# Altium footprint library QFPxx.PcbLib: 5 footprints (part 2 of 3)
Each footprint in its own frame and in the unit in brackets; x right, y up, seen from the top. Pads: shape width x height; smd on the part's side, far side on the other; paste and mask are expansions set on the pad; w line width, h text height; cw(c..) or ccw(c..) is an arc to the next point about the centre after c.
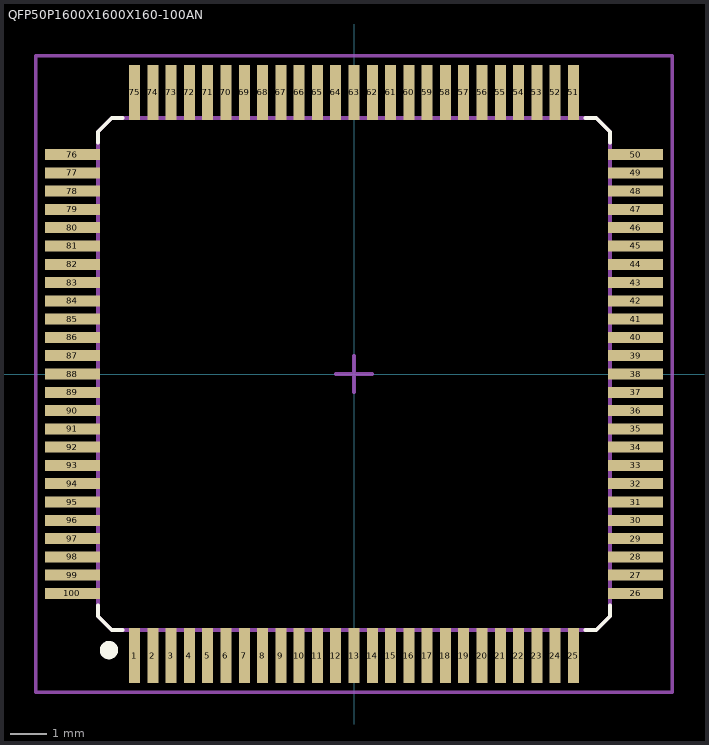
[diagram p1: the footprint, top view; thin cyan lines are the x and y axes]

## QFP50P1600X1600X160-100AN [mm] "Thin QFP, 100-Leads, Body 14x14mm, Pitch 0.5mm"
height 1.6
pads (100):
  rect 0.3x1.5 smd: 1(-6,-7.7) 2(-5.5,-7.7) 3(-5,-7.7) 4(-4.5,-7.7) 5(-4,-7.7) 6(-3.5,-7.7) 7(-3,-7.7) 8(-2.5,-7.7) 9(-2,-7.7) 10(-1.5,-7.7) 11(-1,-7.7) 12(-0.5,-7.7) 13(0,-7.7) 14(0.5,-7.7) 15(1,-7.7) 16(1.5,-7.7) 17(2,-7.7) 18(2.5,-7.7) 19(3,-7.7) 20(3.5,-7.7) 21(4,-7.7) 22(4.5,-7.7) 23(5,-7.7) 24(5.5,-7.7) 25(6,-7.7) 51(6,7.7) 52(5.5,7.7) 53(5,7.7) 54(4.5,7.7) 55(4,7.7) 56(3.5,7.7) 57(3,7.7) 58(2.5,7.7) 59(2,7.7) 60(1.5,7.7) 61(1,7.7) 62(0.5,7.7) 63(0,7.7) 64(-0.5,7.7) 65(-1,7.7) 66(-1.5,7.7) 67(-2,7.7) 68(-2.5,7.7) 69(-3,7.7) 70(-3.5,7.7) 71(-4,7.7) 72(-4.5,7.7) 73(-5,7.7) 74(-5.5,7.7) 75(-6,7.7)
  rect 1.5x0.3 smd: 26(7.7,-6) 27(7.7,-5.5) 28(7.7,-5) 29(7.7,-4.5) 30(7.7,-4) 31(7.7,-3.5) 32(7.7,-3) 33(7.7,-2.5) 34(7.7,-2) 35(7.7,-1.5) 36(7.7,-1) 37(7.7,-0.5) 38(7.7,0) 39(7.7,0.5) 40(7.7,1) 41(7.7,1.5) 42(7.7,2) 43(7.7,2.5) 44(7.7,3) 45(7.7,3.5) 46(7.7,4) 47(7.7,4.5) 48(7.7,5) 49(7.7,5.5) 50(7.7,6) 76(-7.7,6) 77(-7.7,5.5) 78(-7.7,5) 79(-7.7,4.5) 80(-7.7,4) 81(-7.7,3.5) 82(-7.7,3) 83(-7.7,2.5) 84(-7.7,2) 85(-7.7,1.5) 86(-7.7,1) 87(-7.7,0.5) 88(-7.7,0) 89(-7.7,-0.5) 90(-7.7,-1) 91(-7.7,-1.5) 92(-7.7,-2) 93(-7.7,-2.5) 94(-7.7,-3) 95(-7.7,-3.5) 96(-7.7,-4) 97(-7.7,-4.5) 98(-7.7,-5) 99(-7.7,-5.5) 100(-7.7,-6)
Top Overlay:
  circle w0.25: c-6.7,-7.55 r0.125
  lines w0.1: -7,-6.325 -7,-6.625 -6.625,-7 -6.325,-7 ; -7,6.325 -7,6.625 -6.625,7 -6.325,7 ; 6.325,-7 6.625,-7 7,-6.625 7,-6.325 ; 6.325,7 6.625,7 7,6.625 7,6.325
Mechanical 13:
  lines w0.1: -7,-6.625 -7,6.625 -6.625,7 6.625,7 7,6.625 7,-6.625 6.625,-7 -6.625,-7 -7,-6.625
Mechanical 15:
  lines w0.1: -0.5,0 0.5,0 ; 0,-0.5 0,0.5 ; -8.7,-8.7 8.7,-8.7 8.7,8.7 -8.7,8.7 -8.7,-8.7
3D body: height 1.61, standoff 1.6, extent -6.55,-6.547 -5.951,-5.95
3D body: height 1.6, standoff 0, extent -7,-7 7,7
3D body: height 0.2, standoff 0, extent -6.125,-8 -5.875,-7.3
3D body: height 0.9, standoff 0.7, extent -6.125,-7.3 -5.875,-7
3D body: height 0.9, standoff 0, extent -6.125,-7.3 -5.875,-7.2
3D body: height 0.2, standoff 0, extent -5.625,-8 -5.375,-7.3
3D body: height 0.9, standoff 0.7, extent -5.625,-7.3 -5.375,-7
3D body: height 0.9, standoff 0, extent -5.625,-7.3 -5.375,-7.2
3D body: height 0.2, standoff 0, extent -5.125,-8 -4.875,-7.3
3D body: height 0.9, standoff 0.7, extent -5.125,-7.3 -4.875,-7
3D body: height 0.9, standoff 0, extent -5.125,-7.3 -4.875,-7.2
3D body: height 0.2, standoff 0, extent -4.625,-8 -4.375,-7.3
3D body: height 0.9, standoff 0.7, extent -4.625,-7.3 -4.375,-7
3D body: height 0.9, standoff 0, extent -4.625,-7.3 -4.375,-7.2
3D body: height 0.2, standoff 0, extent -4.125,-8 -3.875,-7.3
3D body: height 0.9, standoff 0.7, extent -4.125,-7.3 -3.875,-7
3D body: height 0.9, standoff 0, extent -4.125,-7.3 -3.875,-7.2
3D body: height 0.2, standoff 0, extent -6.125,-8 -5.875,-7.3
3D body: height 0.9, standoff 0.7, extent -6.125,-7.3 -5.875,-7
3D body: height 0.9, standoff 0, extent -6.125,-7.3 -5.875,-7.2
3D body: height 0.9, standoff 0, extent -1.625,-7.3 -1.375,-7.2
3D body: height 0.9, standoff 0.7, extent -1.625,-7.3 -1.375,-7
3D body: height 0.2, standoff 0, extent -1.625,-8 -1.375,-7.3
3D body: height 0.9, standoff 0, extent -2.125,-7.3 -1.875,-7.2
3D body: height 0.9, standoff 0.7, extent -2.125,-7.3 -1.875,-7
3D body: height 0.2, standoff 0, extent -2.125,-8 -1.875,-7.3
3D body: height 0.9, standoff 0, extent -2.625,-7.3 -2.375,-7.2
3D body: height 0.9, standoff 0.7, extent -2.625,-7.3 -2.375,-7
3D body: height 0.2, standoff 0, extent -2.625,-8 -2.375,-7.3
3D body: height 0.9, standoff 0, extent -3.125,-7.3 -2.875,-7.2
3D body: height 0.9, standoff 0.7, extent -3.125,-7.3 -2.875,-7
3D body: height 0.2, standoff 0, extent -3.125,-8 -2.875,-7.3
3D body: height 0.9, standoff 0, extent -3.625,-7.3 -3.375,-7.2
3D body: height 0.9, standoff 0.7, extent -3.625,-7.3 -3.375,-7
3D body: height 0.2, standoff 0, extent -3.625,-8 -3.375,-7.3
3D body: height 0.9, standoff 0, extent 0.875,-7.3 1.125,-7.2
3D body: height 0.9, standoff 0.7, extent 0.875,-7.3 1.125,-7
3D body: height 0.2, standoff 0, extent 0.875,-8 1.125,-7.3
3D body: height 0.9, standoff 0, extent 0.375,-7.3 0.625,-7.2
3D body: height 0.9, standoff 0.7, extent 0.375,-7.3 0.625,-7
3D body: height 0.2, standoff 0, extent 0.375,-8 0.625,-7.3
3D body: height 0.9, standoff 0, extent -0.125,-7.3 0.125,-7.2
3D body: height 0.9, standoff 0.7, extent -0.125,-7.3 0.125,-7
3D body: height 0.2, standoff 0, extent -0.125,-8 0.125,-7.3
3D body: height 0.9, standoff 0, extent -0.625,-7.3 -0.375,-7.2
3D body: height 0.9, standoff 0.7, extent -0.625,-7.3 -0.375,-7
3D body: height 0.2, standoff 0, extent -0.625,-8 -0.375,-7.3
3D body: height 0.9, standoff 0, extent -1.125,-7.3 -0.875,-7.2
3D body: height 0.9, standoff 0.7, extent -1.125,-7.3 -0.875,-7
3D body: height 0.2, standoff 0, extent -1.125,-8 -0.875,-7.3
3D body: height 0.9, standoff 0, extent 3.375,-7.3 3.625,-7.2
3D body: height 0.9, standoff 0.7, extent 3.375,-7.3 3.625,-7
3D body: height 0.2, standoff 0, extent 3.375,-8 3.625,-7.3
3D body: height 0.9, standoff 0, extent 2.875,-7.3 3.125,-7.2
3D body: height 0.9, standoff 0.7, extent 2.875,-7.3 3.125,-7
3D body: height 0.2, standoff 0, extent 2.875,-8 3.125,-7.3
3D body: height 0.9, standoff 0, extent 2.375,-7.3 2.625,-7.2
3D body: height 0.9, standoff 0.7, extent 2.375,-7.3 2.625,-7
3D body: height 0.2, standoff 0, extent 2.375,-8 2.625,-7.3
3D body: height 0.9, standoff 0, extent 1.875,-7.3 2.125,-7.2
3D body: height 0.9, standoff 0.7, extent 1.875,-7.3 2.125,-7
3D body: height 0.2, standoff 0, extent 1.875,-8 2.125,-7.3
3D body: height 0.9, standoff 0, extent 1.375,-7.3 1.625,-7.2
3D body: height 0.9, standoff 0.7, extent 1.375,-7.3 1.625,-7
3D body: height 0.2, standoff 0, extent 1.375,-8 1.625,-7.3
3D body: height 0.9, standoff 0, extent 5.875,-7.3 6.125,-7.2
3D body: height 0.9, standoff 0.7, extent 5.875,-7.3 6.125,-7
3D body: height 0.2, standoff 0, extent 5.875,-8 6.125,-7.3
3D body: height 0.9, standoff 0, extent 5.375,-7.3 5.625,-7.2
3D body: height 0.9, standoff 0.7, extent 5.375,-7.3 5.625,-7
3D body: height 0.2, standoff 0, extent 5.375,-8 5.625,-7.3
3D body: height 0.9, standoff 0, extent 4.875,-7.3 5.125,-7.2
3D body: height 0.9, standoff 0.7, extent 4.875,-7.3 5.125,-7
3D body: height 0.2, standoff 0, extent 4.875,-8 5.125,-7.3
3D body: height 0.9, standoff 0, extent 4.375,-7.3 4.625,-7.2
3D body: height 0.9, standoff 0.7, extent 4.375,-7.3 4.625,-7
3D body: height 0.2, standoff 0, extent 4.375,-8 4.625,-7.3
3D body: height 0.9, standoff 0, extent 3.875,-7.3 4.125,-7.2
3D body: height 0.9, standoff 0.7, extent 3.875,-7.3 4.125,-7
3D body: height 0.2, standoff 0, extent 3.875,-8 4.125,-7.3
3D body: height 0.2, standoff 0, extent -4.125,7.3 -3.875,8
3D body: height 0.9, standoff 0.7, extent -4.125,7 -3.875,7.3
3D body: height 0.9, standoff 0, extent -4.125,7.2 -3.875,7.3
3D body: height 0.2, standoff 0, extent -4.625,7.3 -4.375,8
3D body: height 0.9, standoff 0.7, extent -4.625,7 -4.375,7.3
3D body: height 0.9, standoff 0, extent -4.625,7.2 -4.375,7.3
3D body: height 0.2, standoff 0, extent -5.125,7.3 -4.875,8
3D body: height 0.9, standoff 0.7, extent -5.125,7 -4.875,7.3
3D body: height 0.9, standoff 0, extent -5.125,7.2 -4.875,7.3
3D body: height 0.2, standoff 0, extent -5.625,7.3 -5.375,8
3D body: height 0.9, standoff 0.7, extent -5.625,7 -5.375,7.3
3D body: height 0.9, standoff 0, extent -5.625,7.2 -5.375,7.3
3D body: height 0.2, standoff 0, extent -6.125,7.3 -5.875,8
3D body: height 0.9, standoff 0.7, extent -6.125,7 -5.875,7.3
3D body: height 0.9, standoff 0, extent -6.125,7.2 -5.875,7.3
3D body: height 0.2, standoff 0, extent -1.625,7.3 -1.375,8
3D body: height 0.9, standoff 0.7, extent -1.625,7 -1.375,7.3
3D body: height 0.9, standoff 0, extent -1.625,7.2 -1.375,7.3
3D body: height 0.2, standoff 0, extent -2.125,7.3 -1.875,8
3D body: height 0.9, standoff 0.7, extent -2.125,7 -1.875,7.3
3D body: height 0.9, standoff 0, extent -2.125,7.2 -1.875,7.3
3D body: height 0.2, standoff 0, extent -2.625,7.3 -2.375,8
3D body: height 0.9, standoff 0.7, extent -2.625,7 -2.375,7.3
3D body: height 0.9, standoff 0, extent -2.625,7.2 -2.375,7.3
3D body: height 0.2, standoff 0, extent -3.125,7.3 -2.875,8
3D body: height 0.9, standoff 0.7, extent -3.125,7 -2.875,7.3
3D body: height 0.9, standoff 0, extent -3.125,7.2 -2.875,7.3
3D body: height 0.2, standoff 0, extent -3.625,7.3 -3.375,8
3D body: height 0.9, standoff 0.7, extent -3.625,7 -3.375,7.3
3D body: height 0.9, standoff 0, extent -3.625,7.2 -3.375,7.3
3D body: height 0.2, standoff 0, extent 0.875,7.3 1.125,8
3D body: height 0.9, standoff 0.7, extent 0.875,7 1.125,7.3
3D body: height 0.9, standoff 0, extent 0.875,7.2 1.125,7.3
3D body: height 0.2, standoff 0, extent 0.375,7.3 0.625,8
3D body: height 0.9, standoff 0.7, extent 0.375,7 0.625,7.3
3D body: height 0.9, standoff 0, extent 0.375,7.2 0.625,7.3
3D body: height 0.2, standoff 0, extent -0.125,7.3 0.125,8
3D body: height 0.9, standoff 0.7, extent -0.125,7 0.125,7.3
3D body: height 0.9, standoff 0, extent -0.125,7.2 0.125,7.3
3D body: height 0.2, standoff 0, extent -0.625,7.3 -0.375,8
3D body: height 0.9, standoff 0.7, extent -0.625,7 -0.375,7.3
3D body: height 0.9, standoff 0, extent -0.625,7.2 -0.375,7.3
3D body: height 0.2, standoff 0, extent -1.125,7.3 -0.875,8
3D body: height 0.9, standoff 0.7, extent -1.125,7 -0.875,7.3
3D body: height 0.9, standoff 0, extent -1.125,7.2 -0.875,7.3
3D body: height 0.2, standoff 0, extent 3.375,7.3 3.625,8
3D body: height 0.9, standoff 0.7, extent 3.375,7 3.625,7.3
3D body: height 0.9, standoff 0, extent 3.375,7.2 3.625,7.3
3D body: height 0.2, standoff 0, extent 2.875,7.3 3.125,8
3D body: height 0.9, standoff 0.7, extent 2.875,7 3.125,7.3
3D body: height 0.9, standoff 0, extent 2.875,7.2 3.125,7.3
3D body: height 0.2, standoff 0, extent 2.375,7.3 2.625,8
3D body: height 0.9, standoff 0.7, extent 2.375,7 2.625,7.3
3D body: height 0.9, standoff 0, extent 2.375,7.2 2.625,7.3
3D body: height 0.2, standoff 0, extent 1.875,7.3 2.125,8
3D body: height 0.9, standoff 0.7, extent 1.875,7 2.125,7.3
3D body: height 0.9, standoff 0, extent 1.875,7.2 2.125,7.3
3D body: height 0.2, standoff 0, extent 1.375,7.3 1.625,8
3D body: height 0.9, standoff 0.7, extent 1.375,7 1.625,7.3
3D body: height 0.9, standoff 0, extent 1.375,7.2 1.625,7.3
3D body: height 0.9, standoff 0, extent 5.875,7.2 6.125,7.3
3D body: height 0.9, standoff 0.7, extent 5.875,7 6.125,7.3
3D body: height 0.2, standoff 0, extent 5.875,7.3 6.125,8
3D body: height 0.9, standoff 0, extent 3.875,7.2 4.125,7.3
3D body: height 0.9, standoff 0.7, extent 3.875,7 4.125,7.3
3D body: height 0.2, standoff 0, extent 3.875,7.3 4.125,8
3D body: height 0.9, standoff 0, extent 4.375,7.2 4.625,7.3
3D body: height 0.9, standoff 0.7, extent 4.375,7 4.625,7.3
3D body: height 0.2, standoff 0, extent 4.375,7.3 4.625,8
3D body: height 0.9, standoff 0, extent 4.875,7.2 5.125,7.3
3D body: height 0.9, standoff 0.7, extent 4.875,7 5.125,7.3
3D body: height 0.2, standoff 0, extent 4.875,7.3 5.125,8
3D body: height 0.9, standoff 0, extent 5.375,7.2 5.625,7.3
3D body: height 0.9, standoff 0.7, extent 5.375,7 5.625,7.3
3D body: height 0.2, standoff 0, extent 5.375,7.3 5.625,8
3D body: height 0.9, standoff 0, extent 5.875,7.2 6.125,7.3
3D body: height 0.9, standoff 0.7, extent 5.875,7 6.125,7.3
3D body: height 0.2, standoff 0, extent 5.875,7.3 6.125,8
3D body: height 0.2, standoff 0, extent -8,-4.125 -7.3,-3.875
3D body: height 0.9, standoff 0.7, extent -7.3,-4.125 -7,-3.875
3D body: height 0.9, standoff 0, extent -7.3,-4.125 -7.2,-3.875
3D body: height 0.2, standoff 0, extent -8,-4.625 -7.3,-4.375
3D body: height 0.9, standoff 0.7, extent -7.3,-4.625 -7,-4.375
3D body: height 0.9, standoff 0, extent -7.3,-4.625 -7.2,-4.375
3D body: height 0.2, standoff 0, extent -8,-5.125 -7.3,-4.875
3D body: height 0.9, standoff 0.7, extent -7.3,-5.125 -7,-4.875
3D body: height 0.9, standoff 0, extent -7.3,-5.125 -7.2,-4.875
3D body: height 0.2, standoff 0, extent -8,-5.625 -7.3,-5.375
3D body: height 0.9, standoff 0.7, extent -7.3,-5.625 -7,-5.375
3D body: height 0.9, standoff 0, extent -7.3,-5.625 -7.2,-5.375
3D body: height 0.2, standoff 0, extent -8,-6.125 -7.3,-5.875
3D body: height 0.9, standoff 0.7, extent -7.3,-6.125 -7,-5.875
3D body: height 0.9, standoff 0, extent -7.3,-6.125 -7.2,-5.875
3D body: height 0.2, standoff 0, extent -8,-1.625 -7.3,-1.375
3D body: height 0.9, standoff 0.7, extent -7.3,-1.625 -7,-1.375
3D body: height 0.9, standoff 0, extent -7.3,-1.625 -7.2,-1.375
3D body: height 0.2, standoff 0, extent -8,-2.125 -7.3,-1.875
3D body: height 0.9, standoff 0.7, extent -7.3,-2.125 -7,-1.875
3D body: height 0.9, standoff 0, extent -7.3,-2.125 -7.2,-1.875
3D body: height 0.2, standoff 0, extent -8,-2.625 -7.3,-2.375
3D body: height 0.9, standoff 0.7, extent -7.3,-2.625 -7,-2.375
3D body: height 0.9, standoff 0, extent -7.3,-2.625 -7.2,-2.375
3D body: height 0.2, standoff 0, extent -8,-3.125 -7.3,-2.875
3D body: height 0.9, standoff 0.7, extent -7.3,-3.125 -7,-2.875
3D body: height 0.9, standoff 0, extent -7.3,-3.125 -7.2,-2.875
3D body: height 0.2, standoff 0, extent -8,-3.625 -7.3,-3.375
3D body: height 0.9, standoff 0.7, extent -7.3,-3.625 -7,-3.375
3D body: height 0.9, standoff 0, extent -7.3,-3.625 -7.2,-3.375
3D body: height 0.2, standoff 0, extent -8,0.875 -7.3,1.125
3D body: height 0.9, standoff 0.7, extent -7.3,0.875 -7,1.125
3D body: height 0.9, standoff 0, extent -7.3,0.875 -7.2,1.125
3D body: height 0.2, standoff 0, extent -8,0.375 -7.3,0.625
3D body: height 0.9, standoff 0.7, extent -7.3,0.375 -7,0.625
3D body: height 0.9, standoff 0, extent -7.3,0.375 -7.2,0.625
3D body: height 0.2, standoff 0, extent -8,-0.125 -7.3,0.125
3D body: height 0.9, standoff 0.7, extent -7.3,-0.125 -7,0.125
3D body: height 0.9, standoff 0, extent -7.3,-0.125 -7.2,0.125
3D body: height 0.2, standoff 0, extent -8,-0.625 -7.3,-0.375
3D body: height 0.9, standoff 0.7, extent -7.3,-0.625 -7,-0.375
3D body: height 0.9, standoff 0, extent -7.3,-0.625 -7.2,-0.375
3D body: height 0.2, standoff 0, extent -8,-1.125 -7.3,-0.875
3D body: height 0.9, standoff 0.7, extent -7.3,-1.125 -7,-0.875
3D body: height 0.9, standoff 0, extent -7.3,-1.125 -7.2,-0.875
3D body: height 0.2, standoff 0, extent -8,3.375 -7.3,3.625
3D body: height 0.9, standoff 0.7, extent -7.3,3.375 -7,3.625
3D body: height 0.9, standoff 0, extent -7.3,3.375 -7.2,3.625
3D body: height 0.2, standoff 0, extent -8,2.875 -7.3,3.125
3D body: height 0.9, standoff 0.7, extent -7.3,2.875 -7,3.125
3D body: height 0.9, standoff 0, extent -7.3,2.875 -7.2,3.125
3D body: height 0.2, standoff 0, extent -8,2.375 -7.3,2.625
3D body: height 0.9, standoff 0.7, extent -7.3,2.375 -7,2.625
3D body: height 0.9, standoff 0, extent -7.3,2.375 -7.2,2.625
3D body: height 0.2, standoff 0, extent -8,1.875 -7.3,2.125
3D body: height 0.9, standoff 0.7, extent -7.3,1.875 -7,2.125
3D body: height 0.9, standoff 0, extent -7.3,1.875 -7.2,2.125
3D body: height 0.2, standoff 0, extent -8,1.375 -7.3,1.625
3D body: height 0.9, standoff 0.7, extent -7.3,1.375 -7,1.625
3D body: height 0.9, standoff 0, extent -7.3,1.375 -7.2,1.625
3D body: height 0.9, standoff 0, extent -7.3,5.875 -7.2,6.125
3D body: height 0.9, standoff 0.7, extent -7.3,5.875 -7,6.125
3D body: height 0.2, standoff 0, extent -8,5.875 -7.3,6.125
3D body: height 0.9, standoff 0, extent -7.3,3.875 -7.2,4.125
3D body: height 0.9, standoff 0.7, extent -7.3,3.875 -7,4.125
3D body: height 0.2, standoff 0, extent -8,3.875 -7.3,4.125
3D body: height 0.9, standoff 0, extent -7.3,4.375 -7.2,4.625
3D body: height 0.9, standoff 0.7, extent -7.3,4.375 -7,4.625
3D body: height 0.2, standoff 0, extent -8,4.375 -7.3,4.625
3D body: height 0.9, standoff 0, extent -7.3,4.875 -7.2,5.125
3D body: height 0.9, standoff 0.7, extent -7.3,4.875 -7,5.125
3D body: height 0.2, standoff 0, extent -8,4.875 -7.3,5.125
3D body: height 0.9, standoff 0, extent -7.3,5.375 -7.2,5.625
3D body: height 0.9, standoff 0.7, extent -7.3,5.375 -7,5.625
3D body: height 0.2, standoff 0, extent -8,5.375 -7.3,5.625
3D body: height 0.9, standoff 0, extent -7.3,5.875 -7.2,6.125
3D body: height 0.9, standoff 0.7, extent -7.3,5.875 -7,6.125
3D body: height 0.2, standoff 0, extent -8,5.875 -7.3,6.125
3D body: height 0.2, standoff 0, extent 7.3,3.875 8,4.125
3D body: height 0.9, standoff 0.7, extent 7,3.875 7.3,4.125
3D body: height 0.9, standoff 0, extent 7.2,3.875 7.3,4.125
3D body: height 0.2, standoff 0, extent 7.3,4.375 8,4.625
3D body: height 0.9, standoff 0.7, extent 7,4.375 7.3,4.625
3D body: height 0.9, standoff 0, extent 7.2,4.375 7.3,4.625
3D body: height 0.2, standoff 0, extent 7.3,4.875 8,5.125
3D body: height 0.9, standoff 0.7, extent 7,4.875 7.3,5.125
3D body: height 0.9, standoff 0, extent 7.2,4.875 7.3,5.125
3D body: height 0.2, standoff 0, extent 7.3,5.375 8,5.625
3D body: height 0.9, standoff 0.7, extent 7,5.375 7.3,5.625
3D body: height 0.9, standoff 0, extent 7.2,5.375 7.3,5.625
3D body: height 0.2, standoff 0, extent 7.3,5.875 8,6.125
3D body: height 0.9, standoff 0.7, extent 7,5.875 7.3,6.125
3D body: height 0.9, standoff 0, extent 7.2,5.875 7.3,6.125
3D body: height 0.2, standoff 0, extent 7.3,1.375 8,1.625
3D body: height 0.9, standoff 0.7, extent 7,1.375 7.3,1.625
3D body: height 0.9, standoff 0, extent 7.2,1.375 7.3,1.625
3D body: height 0.2, standoff 0, extent 7.3,1.875 8,2.125
3D body: height 0.9, standoff 0.7, extent 7,1.875 7.3,2.125
3D body: height 0.9, standoff 0, extent 7.2,1.875 7.3,2.125
3D body: height 0.2, standoff 0, extent 7.3,2.375 8,2.625
3D body: height 0.9, standoff 0.7, extent 7,2.375 7.3,2.625
3D body: height 0.9, standoff 0, extent 7.2,2.375 7.3,2.625
3D body: height 0.2, standoff 0, extent 7.3,2.875 8,3.125
3D body: height 0.9, standoff 0.7, extent 7,2.875 7.3,3.125
3D body: height 0.9, standoff 0, extent 7.2,2.875 7.3,3.125
3D body: height 0.2, standoff 0, extent 7.3,3.375 8,3.625
3D body: height 0.9, standoff 0.7, extent 7,3.375 7.3,3.625
3D body: height 0.9, standoff 0, extent 7.2,3.375 7.3,3.625
3D body: height 0.2, standoff 0, extent 7.3,-1.125 8,-0.875
3D body: height 0.9, standoff 0.7, extent 7,-1.125 7.3,-0.875
3D body: height 0.9, standoff 0, extent 7.2,-1.125 7.3,-0.875
3D body: height 0.2, standoff 0, extent 7.3,-0.625 8,-0.375
3D body: height 0.9, standoff 0.7, extent 7,-0.625 7.3,-0.375
3D body: height 0.9, standoff 0, extent 7.2,-0.625 7.3,-0.375
3D body: height 0.2, standoff 0, extent 7.3,-0.125 8,0.125
3D body: height 0.9, standoff 0.7, extent 7,-0.125 7.3,0.125
3D body: height 0.9, standoff 0, extent 7.2,-0.125 7.3,0.125
3D body: height 0.2, standoff 0, extent 7.3,0.375 8,0.625
3D body: height 0.9, standoff 0.7, extent 7,0.375 7.3,0.625
3D body: height 0.9, standoff 0, extent 7.2,0.375 7.3,0.625
3D body: height 0.2, standoff 0, extent 7.3,0.875 8,1.125
3D body: height 0.9, standoff 0.7, extent 7,0.875 7.3,1.125
3D body: height 0.9, standoff 0, extent 7.2,0.875 7.3,1.125
3D body: height 0.2, standoff 0, extent 7.3,-3.625 8,-3.375
3D body: height 0.9, standoff 0.7, extent 7,-3.625 7.3,-3.375
3D body: height 0.9, standoff 0, extent 7.2,-3.625 7.3,-3.375
3D body: height 0.2, standoff 0, extent 7.3,-3.125 8,-2.875
3D body: height 0.9, standoff 0.7, extent 7,-3.125 7.3,-2.875
3D body: height 0.9, standoff 0, extent 7.2,-3.125 7.3,-2.875
3D body: height 0.2, standoff 0, extent 7.3,-2.625 8,-2.375
3D body: height 0.9, standoff 0.7, extent 7,-2.625 7.3,-2.375
3D body: height 0.9, standoff 0, extent 7.2,-2.625 7.3,-2.375
3D body: height 0.2, standoff 0, extent 7.3,-2.125 8,-1.875
3D body: height 0.9, standoff 0.7, extent 7,-2.125 7.3,-1.875
3D body: height 0.9, standoff 0, extent 7.2,-2.125 7.3,-1.875
3D body: height 0.2, standoff 0, extent 7.3,-1.625 8,-1.375
3D body: height 0.9, standoff 0.7, extent 7,-1.625 7.3,-1.375
3D body: height 0.9, standoff 0, extent 7.2,-1.625 7.3,-1.375
3D body: height 0.9, standoff 0, extent 7.2,-6.125 7.3,-5.875
3D body: height 0.9, standoff 0.7, extent 7,-6.125 7.3,-5.875
3D body: height 0.2, standoff 0, extent 7.3,-6.125 8,-5.875
3D body: height 0.9, standoff 0, extent 7.2,-4.125 7.3,-3.875
3D body: height 0.9, standoff 0.7, extent 7,-4.125 7.3,-3.875
3D body: height 0.2, standoff 0, extent 7.3,-4.125 8,-3.875
3D body: height 0.9, standoff 0, extent 7.2,-4.625 7.3,-4.375
3D body: height 0.9, standoff 0.7, extent 7,-4.625 7.3,-4.375
3D body: height 0.2, standoff 0, extent 7.3,-4.625 8,-4.375
3D body: height 0.9, standoff 0, extent 7.2,-5.125 7.3,-4.875
3D body: height 0.9, standoff 0.7, extent 7,-5.125 7.3,-4.875
3D body: height 0.2, standoff 0, extent 7.3,-5.125 8,-4.875
3D body: height 0.9, standoff 0, extent 7.2,-5.625 7.3,-5.375
3D body: height 0.9, standoff 0.7, extent 7,-5.625 7.3,-5.375
3D body: height 0.2, standoff 0, extent 7.3,-5.625 8,-5.375
3D body: height 0.9, standoff 0, extent 7.2,-6.125 7.3,-5.875
3D body: height 0.9, standoff 0.7, extent 7,-6.125 7.3,-5.875
3D body: height 0.2, standoff 0, extent 7.3,-6.125 8,-5.875